# Altium footprint library __ui.PcbLib: 90 footprints (part 5 of 6)
Each footprint in its own frame and in the unit in brackets; x right, y up, seen from the top. Pads: shape width x height; smd on the part's side, far side on the other; paste and mask are expansions set on the pad; w line width, h text height; cw(c..) or ccw(c..) is an arc to the next point about the centre after c.
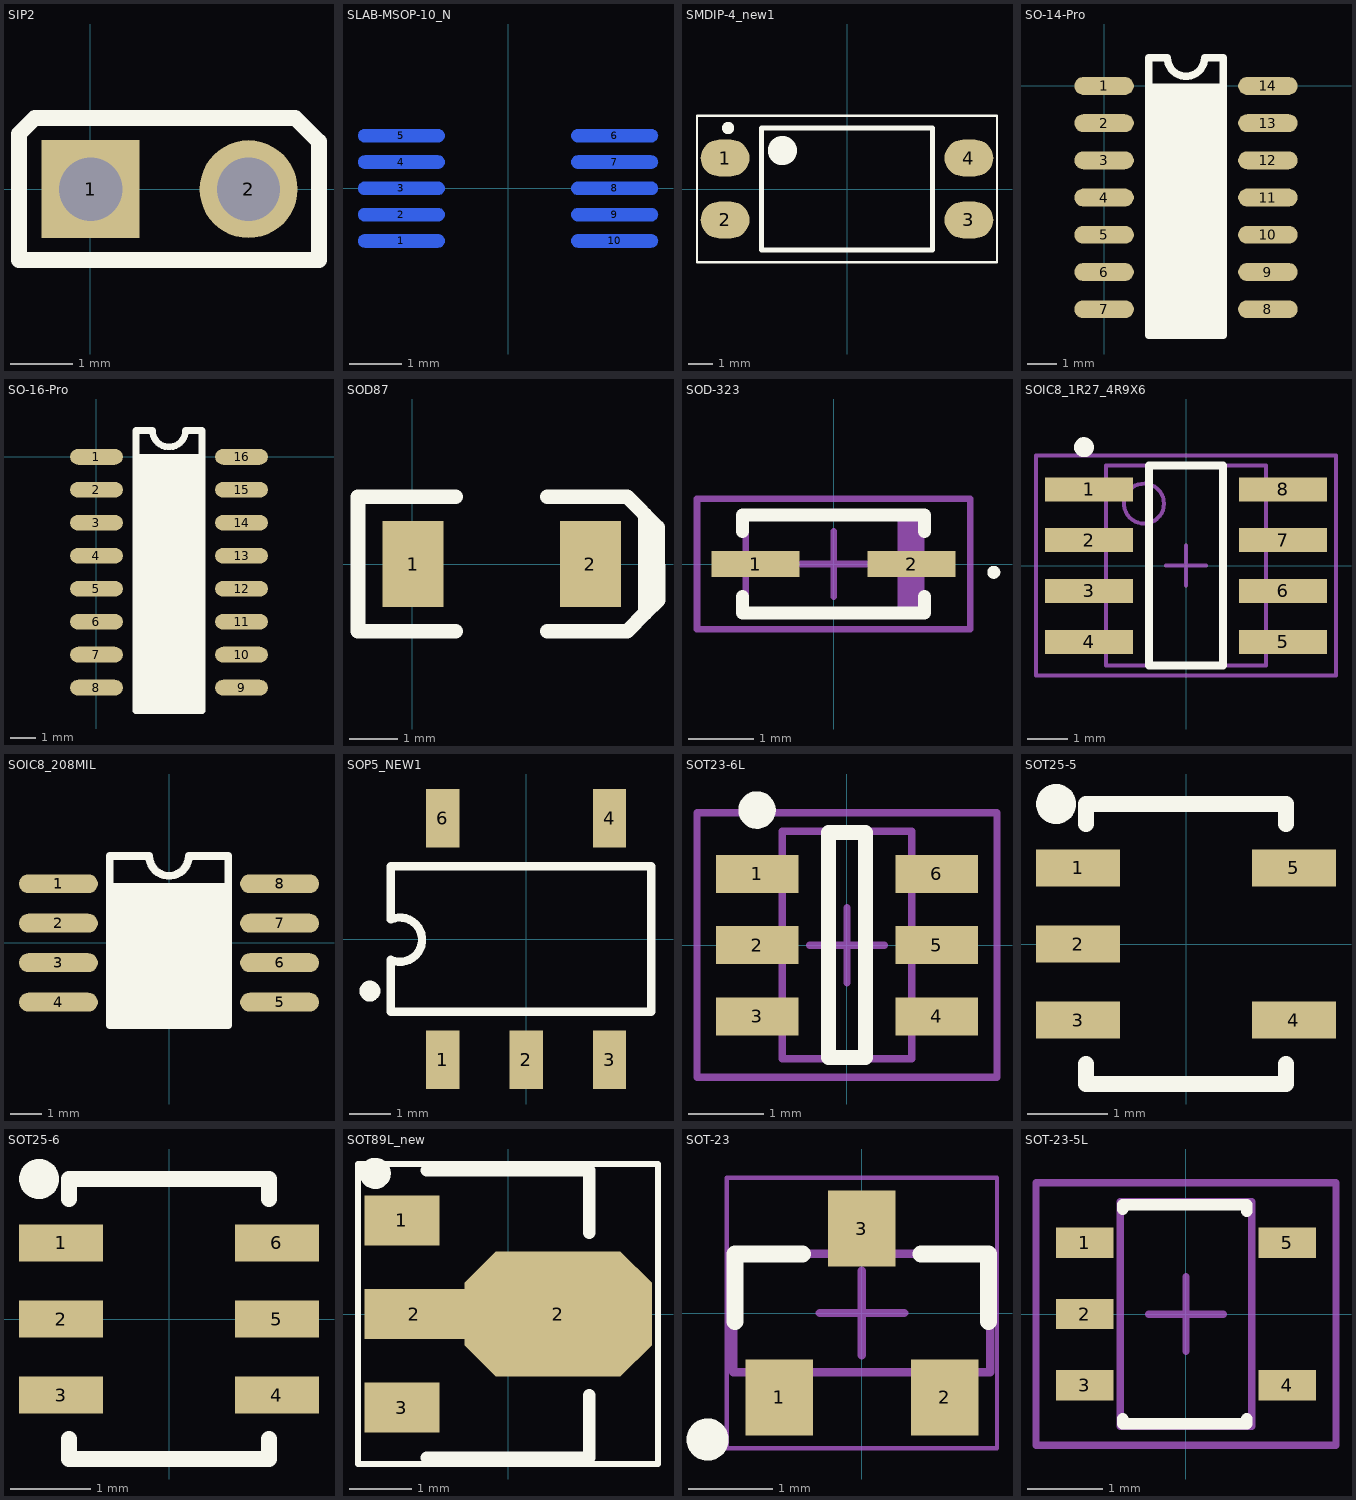
[diagram p4: the footprints below, top view; thin cyan lines are the x and y axes]

## SIP2 [mil]
pads (2):
  rect 62x62 hole 40: 1(0.39,-0.11)
  round 62 hole 40: 2(100.39,-0.11)
Top Overlay:
  lines w10: -45,-45 -45,35 -35,45 130,45 145,30 145,-45 -45,-45

## SLAB-MSOP-10_N [mm] "SOP, 10-Leads, Body 3x3mm, Pitch 0.5mm, IPC Medium Density"
height 1.1
pads (10):
  oval 1.65x0.25 smd far side: 1(-2.025,-1) 2(-2.025,-0.5) 3(-2.025,0) 4(-2.025,0.5) 5(-2.025,1) 6(2.025,1) 7(2.025,0.5) 8(2.025,0) 9(2.025,-0.5) 10(2.025,-1)
Bottom Overlay:
  circle w0.25: c-2.025,-1.725 r0.125
  lines w0.2: -0.8,-1.5 -0.8,1.5 0.8,1.5 0.8,-1.5 0.4,-1.5 0.17,-1.27 -0.17,-1.27 -0.4,-1.5 -0.8,-1.5

## SMDIP-4_new1 [mm] "4 pin SMD DIP, pitch 2.54mm"
height 4
pads (4):
  oval 2x1.5 smd: 1(-5,1.27) 2(-5,-1.27) 3(5,-1.27) 4(5,1.27)
Top Overlay:
  circle w0.25: c-4.875,2.5 r0.125
  circle w0.6: c-2.65,1.575 r0.3
  lines w0.1: -6.15,-3 -6.15,3 6.15,3 6.15,-3 -6.15,-3
  lines w0.2: -3.5,-2.5 -3.5,2.5 3.5,2.5 3.5,-2.5 -3.5,-2.5

## SO-14-Pro [mil]
pads (14):
  oval 80x24 smd: 1(0,0) 2(0,-50) 3(0,-100) 4(0,-150) 5(0,-200) 6(0,-250) 7(0,-300) 8(220,-300) 9(220,-250) 10(220,-200) 11(220,-150) 12(220,-100) 13(220,-50) 14(220,0)
Top Overlay:
  rectangle: 59,-335 161,3
  lines w10: 60,-335 60,38 85,38 ccw(c110,38) 135,38 160,38 160,-335 60,-335

## SO-16-Pro [mil]
pads (16):
  oval 80x24 smd: 1(0,0) 2(0,-50) 3(0,-100) 4(0,-150) 5(0,-200) 6(0,-250) 7(0,-300) 8(0,-350) 9(220,-350) 10(220,-300) 11(220,-250) 12(220,-200) 13(220,-150) 14(220,-100) 15(220,-50) 16(220,0)
Top Overlay:
  rectangle: 59,-385 159,4
  lines w10: 60,-385 160,-385 160,40 135,40 cw(c110,40) 85,40 60,40 60,-385

## SOD87 [mil]
pads (2):
  rect 50x70 smd: 1(0.46,0.23) 2(145.46,0.23)
Top Overlay:
  lines w12: 35.46,-54.77 -44.54,-54.77 -44.54,55.23 35.46,55.23 ; 110.46,-54.77 175.46,-54.77 190.46,-39.77 ; 110.46,55.23 175.46,55.23 200.63,30.06 200.76,-29.31 190.46,-39.66 190.46,40.23

## SOD-323 [mm] "Diode"
height 1
pads (2):
  rect 1.35x0.4 smd: 1(-1.2,0) 2(1.2,0)
Top Overlay:
  circle w0.1: c2.463,-0.127 r0.05
  lines w0.2: -1.4,-0.5 -1.4,-0.75 1.4,-0.75 1.4,-0.5 ; -1.4,0.5 -1.4,0.75 1.4,0.75 1.4,0.5
Mechanical 13:
  region: 1.35,0.724 0.986,0.724 0.986,-0.726 1.35,-0.726
  lines w0.1: -1.35,-0.725 1.35,-0.725 1.35,0.725 -1.35,0.725 -1.35,-0.725
Mechanical 15:
  lines w0.1: -0.5,0 0.5,0 ; 0,-0.5 0,0.5 ; -2.1,-1 2.1,-1 2.1,1 -2.1,1 -2.1,-1
3D body: height 1.17, standoff 0, extent -1.35,-0.725 1.35,0.725

## SOIC8_1R27_4R9X6 [mm] "1.2 A current limited high-side power switch with thermal shutdown"
height 1.75
pads (8):
  rect 2.2x0.6 smd: 1(-2.425,1.905) 2(-2.425,0.635) 3(-2.425,-0.635) 4(-2.425,-1.905) 5(2.425,-1.905) 6(2.425,-0.635) 7(2.425,0.635) 8(2.425,1.905)
Top Overlay:
  circle w0.25: c-2.55,2.96 r0.125
  lines w0.2: -0.925,-2.5 -0.925,2.5 0.925,2.5 0.925,-2.5 -0.925,-2.5
Mechanical 13:
  circle w0.1: c-1.05,1.55 r0.5
  lines w0.1: -2,-2.5 -2,2.5 2,2.5 2,-2.5 -2,-2.5
Mechanical 15:
  lines w0.1: -0.5,0 0.5,0 ; 0,-0.5 0,0.5 ; -3.75,-2.75 -3.75,2.75 3.75,2.75 3.75,-2.75 -3.75,-2.75
3D body: height 1.45, standoff 0.1, extent -2,-2.5 2,2.5

## SOIC8_208MIL [mil]
pads (8):
  oval 100x24 smd: 1(-140,75) 2(-140,25) 3(-140,-25) 4(-140,-75) 5(140,-75) 6(140,-25) 7(140,25) 8(140,75)
Top Overlay:
  rectangle: -75,-103 75,76
  lines w10: -43.75,110 -75,110 -75,-104 75,-104 75,-26 75,30 75,110 25,110 cw(c0,110) -25,110 -31.25,110 -43.75,110 ; -43.75,110 -43.75,110

## SOP5_NEW1 [mm] "Small Outline; 6 Leads (1 Absent); Body Width 6.9 mm; Pitch 2 mm"
height 4.4
pads (5):
  rect 0.8x1.4 smd: 1(-2,-2.9) 2(0,-2.9) 3(2,-2.9) 4(2,2.9) 6(-2,2.9)
Top Overlay:
  circle w0.25: c-3.75,-1.25 r0.125
  lines w0.2: -3.25,0.5 -3.25,1.75 3,1.75 3,-1.75 -3.25,-1.75 -3.25,-0.5 ccw(c-3.031,-0.016) -3.249,0.469

## SOT23-6L [mm]
height 1.25
pads (6):
  rect 1.1x0.508 smd: 1(-1.2,0.95) 2(-1.2,0) 3(-1.2,-0.95) 4(1.2,-0.95) 5(1.2,0) 6(1.2,0.95)
Top Overlay:
  circle w0.25: c-1.2,1.8 r0.125
  lines w0.2: -0.25,-1.5 -0.25,1.5 0.25,1.5 0.25,-1.5 -0.25,-1.5
Mechanical 13:
  lines w0.1: -0.865,-1.515 0.865,-1.515 0.865,1.515 -0.865,1.515 -0.865,-1.515
Mechanical 15:
  lines w0.1: -0.5,0 0.5,0 ; 0,-0.5 0,0.5 ; -2,-1.763 2,-1.763 2,1.763 -2,1.763 -2,-1.763
3D body: height 1.25, standoff 0.05, extent -0.865,-1.515 0.865,1.515

## SOT25-5 [mm] "5 lead package"
height 1
pads (5):
  rect 1.05x0.457 smd: 1(-1.35,0.95) 2(-1.35,0) 3(-1.35,-0.95) 4(1.35,-0.95) 5(1.35,0.95)
Top Overlay:
  circle w0.25: c-1.625,1.75 r0.125
  lines w0.2: -1.25,-1.5 -1.25,-1.75 1.25,-1.75 1.25,-1.5 ; -1.25,1.5 -1.25,1.75 1.25,1.75 1.25,1.5

## SOT25-6 [mm] "6 lead package"
height 1
pads (6):
  rect 1.05x0.457 smd: 1(-1.35,0.95) 2(-1.35,0) 3(-1.35,-0.95) 4(1.35,-0.95) 5(1.35,0) 6(1.35,0.95)
Top Overlay:
  circle w0.25: c-1.625,1.75 r0.125
  lines w0.2: -1.25,-1.5 -1.25,-1.75 1.25,-1.75 1.25,-1.5 ; -1.25,1.5 -1.25,1.75 1.25,1.75 1.25,1.5

## SOT89L_new [mm] "SOT89, 3-Leads, Body 4.5x2.4 mm, Pitch 1.5mm, Lead Span 4.1mm, IPC High Density"
height 1.6
pads (4):
  rect 1.2x0.8 smd: 1(-1.7,1.5) 3(-1.7,-1.5)
  rect 1.6x0.8 smd: 2(-1.5,0)
  oct 3x2 smd: 2(0.8,0)
Top Overlay:
  circle w0.25: c-2.125,2.25 r0.125
  lines w0.1: -2.4,-2.4 2.4,-2.4 2.4,2.4 -2.4,2.4 -2.4,-2.4
  lines w0.2: -1.3,-2.3 1.3,-2.3 1.3,-1.3 ; -1.3,2.3 1.3,2.3 1.3,1.3

## SOT-23 [mm]
height 1.1
pads (3):
  rect 0.8x0.9 smd: 1(-0.98,-1) 2(0.98,-1) 3(0,1)
Top Overlay:
  circle w0.25: c-1.827,-1.499 r0.125
  lines w0.2: -1.5,-0.1 -1.5,0.7 -0.7,0.7 ; 0.7,0.7 1.5,0.7 1.5,-0.1
Mechanical 13:
  lines w0.1: -1.52,-0.7 -1.52,0.7 1.52,0.7 1.52,-0.7 -1.52,-0.7
Mechanical 15:
  lines w0.05: -1.6,-1.6 -1.6,1.6 1.6,1.6 1.6,-1.6 -1.6,-1.6
  lines w0.1: -0.5,0 0.5,0 ; 0,-0.5 0,0.5
3D body: height 1.11, standoff 0.01, extent -1.52,-0.7 1.52,0.7

## SOT-23-5L [mil] "Enhanced single channel power switches"
height 57.09
pads (5):
  rect 30x16 smd: 1(-53.15,37.4) 2(-53.15,0) 3(-53.15,-37.4) 4(53.15,-37.4) 5(53.15,37.4)
Top Overlay:
  lines w6: -33.15,-55 -33.15,-57.6 31.85,-57.6 31.85,-55 ; -33.15,55 -33.15,57.4 31.85,57.4 31.85,54
Mechanical 13:
  lines w3.94: -34.45,-59.06 34.45,-59.06 34.45,59.06 -34.45,59.06 -34.45,-59.06
Mechanical 15:
  lines w3.94: -19.68,0 19.69,0 ; 0,-19.68 0,19.69 ; -78.74,-68.9 78.74,-68.9 78.74,68.9 -78.74,68.9 -78.74,-68.9
3D body: height 57.09, standoff 1.97, extent -34.45,-59.06 34.45,59.06